# EAGLE library part 7PPAD (library duckypad)
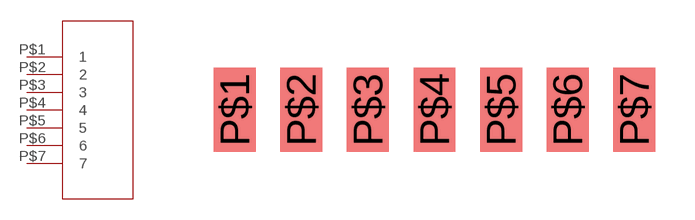
[diagram p0: symbol with the pads of 7P; footprint 7P]

Designator prefix -

## 7PPAD  [7P]
P$1  1
P$2  2
P$3  3
P$4  4
P$5  5
P$6  6
P$7  7

## Footprint 7P (pad centres in mm)
smd 1.6 x 3.2: P$1 -7.62,0; P$2 -5.08,0; P$3 -2.54,0; P$4 0,0; P$5 2.54,0; P$6 5.08,0; P$7 7.62,0